# EAGLE library part REG710 (library ti_reg710_buck_boost)
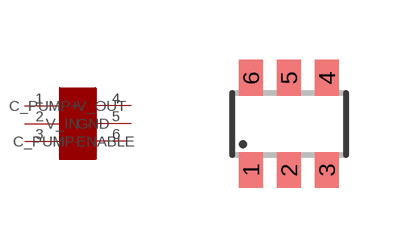
[diagram p0: symbol with the pads of SOT23-6; footprint SOT23-6]

Designator prefix -

## REG710  [SOT23-6]
1  V_OUT
2  GND
3  ENABLE
4  C_PUMP+
5  V_IN
6  C_PUMP-

## Footprint SOT23-6 (pad centres in mm)
smd 0.6 x 0.9: 1 -0.95,-1.15; 2 0,-1.15; 3 0.95,-1.15; 4 0.95,1.15; 5 0,1.15; 6 -0.95,1.15